# EAGLE library part DF12D(*)-20DP-0.5V (library hirose-df12)
0.5mm Pitch SMT Board to Board Connector Source: http://www.hirose.co.jp/catalogj_hp/jd_DF12_20131205.pdf http://www.hirose.co.jp/cataloge_hp/en_DF12_20130411.pdf
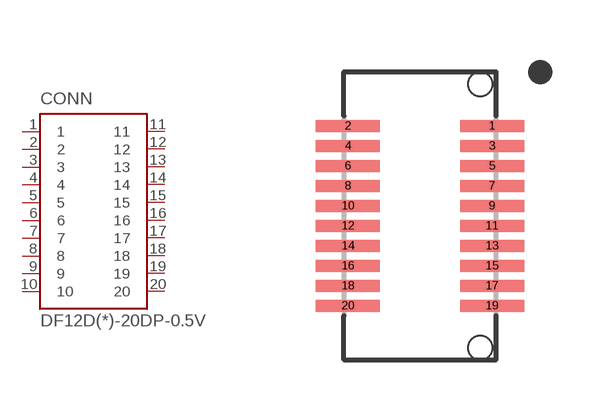
[diagram p23: symbol with the pads of DF12D(*)-20DP-0.5V; footprint DF12D(*)-20DP-0.5V]

Designator prefix CONN

## DF12D(3.0)-20DP-0.5V, DF12D(3.5)-20DP-0.5V, DF12D(4.0)-20DP-0.5V, DF12D(5.0)-20DP-0.5V  [DF12D(*)-20DP-0.5V]
1  1
2  2
3  3
4  4
5  5
6  6
7  7
8  8
9  9
10  10
11  11
12  12
13  13
14  14
15  15
16  16
17  17
18  18
19  19
20  20

## Footprint DF12D(*)-20DP-0.5V (pad centres in mm)
smd 1.6 x 0.3: 1 1.8,2.25; 2 -1.8,2.25; 3 1.8,1.75; 4 -1.8,1.75; 5 1.8,1.25; 6 -1.8,1.25; 7 1.8,0.75; 8 -1.8,0.75; 9 1.8,0.25; 10 -1.8,0.25; 11 1.8,-0.25; 12 -1.8,-0.25; 13 1.8,-0.75; 14 -1.8,-0.75; 15 1.8,-1.25; 16 -1.8,-1.25; 17 1.8,-1.75; 18 -1.8,-1.75; 19 1.8,-2.25; 20 -1.8,-2.25
hole 0.6 at 1.5,3.3
hole 0.6 at 1.5,-3.3